# Altium schematic symbol library TPS25982.SchLib: 1 symbol
Pins are listed as number, name and electrical type; pins without a type are passive.

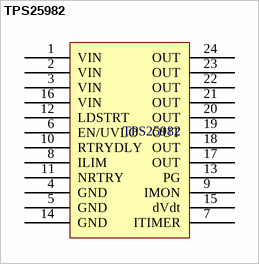
[diagram p0: symbol TPS25982]

## TPS25982
designator TPS25982, comment eFuse  (value not drawn)
2.7 - 24 V input supply, 15 A max load current
pins: 1 VIN, 2 VIN, 3 VIN, 4 GND, 5 GND, 6 EN/UVLO, 7 ITIMER, 8 ILIM, 9 IMON, 10 RTRYDLY, 11 NRTRY, 12 LDSTRT, 13 PG, 14 GND, 15 dVdt, 16 VIN, 17 OUT, 18 OUT, 19 OUT, 20 OUT, 21 OUT, 22 OUT, 23 OUT, 24 OUT